# Altium schematic symbol library usb_micro_b.Schlib: 1 symbol
Pins are listed as number, name and electrical type; pins without a type are passive.

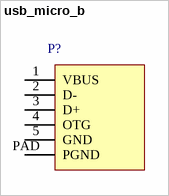
[diagram p0: symbol usb_micro_b]

## usb_micro_b
designator P?  (value not drawn)
USB Micro B
pins: 1 VBUS, 2 D-, 3 D+, 4 OTG, 5 GND, PAD PGND